# EAGLE library part M03X2 (library snowflake)
This is a 3x2 pin header Note: This part is based on the Sparkfun M04X2 header.
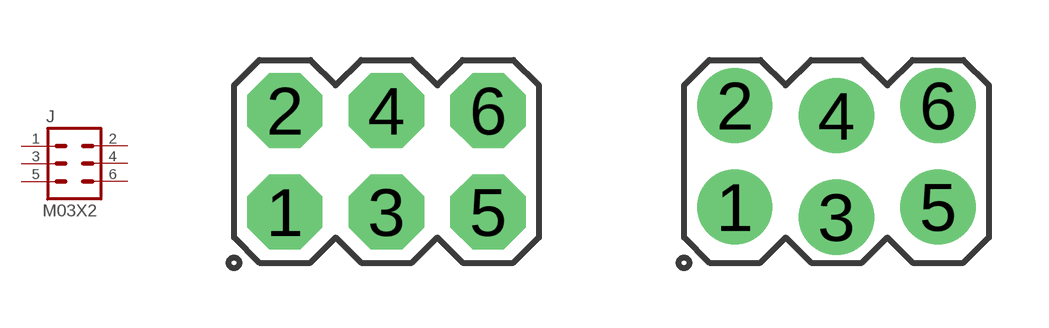
[diagram p1: symbol with the pads of 2X03_HEX; footprints 2X03_HEX, 2X03_LOCK]

Designator prefix J

## M03X2-HEX  [2X03_HEX]
1  1  pas
2  2  pas
3  3  pas
4  4  pas
5  5  pas
6  6  pas

## M03X2-LOCK  [2X03_LOCK]
Pads as for 2X03_HEX

## M03X2-NOSILK  [2X03_LOCK_NOSILK]
Pads as for 2X03_HEX

## M03X2-ROUND  [2X03_ROUND]
Pads as for 2X03_HEX

## Footprint 2X03_HEX (pad centres in mm)
drill 1.016 pad 1.88 octagon: 1 -2.54,-1.27; 2 -2.54,1.27; 3 0,-1.27; 4 0,1.27; 5 2.54,-1.27; 6 2.54,1.27

## Footprint 2X03_LOCK (pad centres in mm)
drill 1.016 pad 1.88: 1 -2.54,-1.143; 2 -2.54,1.397; 3 0,-1.397; 4 0,1.143; 5 2.54,-1.143; 6 2.54,1.397

## Footprint 2X03_LOCK_NOSILK (pad centres in mm)
drill 1.016 pad 1.88: 1 -2.54,-1.143; 2 -2.54,1.397; 3 0,-1.397; 4 0,1.143; 5 2.54,-1.143; 6 2.54,1.397

## Footprint 2X03_ROUND (pad centres in mm)
drill 1.016 pad 1.88: 1 -2.54,-1.27; 2 -2.54,1.27; 3 0,-1.27; 4 0,1.27; 5 2.54,-1.27; 6 2.54,1.27